# EAGLE library part IC_UC_PIC24FJ64GA002 (library dp_devices)
16-bit General Purpose Flash Microcontroller
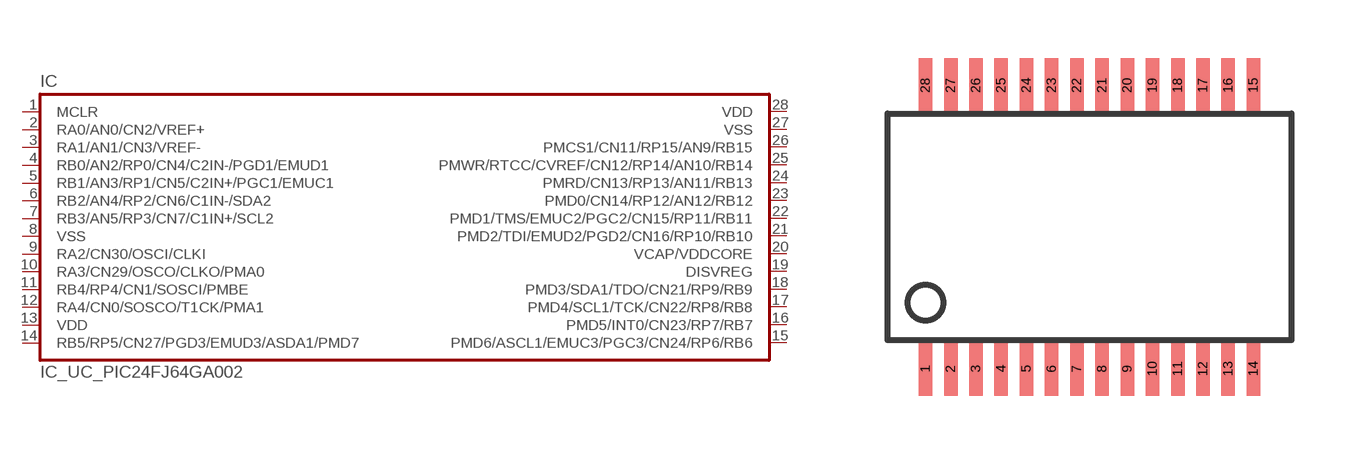
[diagram p76: symbol with the pads of SSOP-28; footprint SSOP-28]

Designator prefix IC

## IC_UC_PIC24FJ64GA002  [SSOP-28]
1  MCLR  in
2  RA0/AN0/CN2/VREF+
3  RA1/AN1/CN3/VREF-
4  RB0/AN2/RP0/CN4/C2IN-/PGD1/EMUD1
5  RB1/AN3/RP1/CN5/C2IN+/PGC1/EMUC1
6  RB2/AN4/RP2/CN6/C1IN-/SDA2
7  RB3/AN5/RP3/CN7/C1IN+/SCL2
8  VSS  sup
9  RA2/CN30/OSCI/CLKI
10  RA3/CN29/OSCO/CLKO/PMA0
11  RB4/RP4/CN1/SOSCI/PMBE
12  RA4/CN0/SOSCO/T1CK/PMA1
13  VDD  sup
14  RB5/RP5/CN27/PGD3/EMUD3/ASDA1/PMD7
15  PMD6/ASCL1/EMUC3/PGC3/CN24/RP6/RB6
16  PMD5/INT0/CN23/RP7/RB7
17  PMD4/SCL1/TCK/CN22/RP8/RB8
18  PMD3/SDA1/TDO/CN21/RP9/RB9
19  DISVREG  pwr
20  VCAP/VDDCORE  pwr
21  PMD2/TDI/EMUD2/PGD2/CN16/RP10/RB10
22  PMD1/TMS/EMUC2/PGC2/CN15/RP11/RB11
23  PMD0/CN14/RP12/AN12/RB12
24  PMRD/CN13/RP13/AN11/RB13
25  PMWR/RTCC/CVREF/CN12/RP14/AN10/RB14
26  PMCS1/CN11/RP15/AN9/RB15
27  VSS  sup
28  VDD  sup

## Footprint SSOP-28 (pad centres in mm)
SSOP28
smd 0.348 x 1.397: 1 -4.225,-3.656; 2 -3.575,-3.656; 3 -2.925,-3.656; 4 -2.275,-3.656; 5 -1.625,-3.656; 6 -0.975,-3.656; 7 -0.325,-3.656; 8 0.325,-3.656; 9 0.975,-3.656; 10 1.625,-3.656; 11 2.275,-3.656; 12 2.925,-3.656; 13 3.575,-3.656; 14 4.225,-3.656; 15 4.225,3.656; 16 3.575,3.656; 17 2.925,3.656; 18 2.275,3.656; 19 1.625,3.656; 20 0.975,3.656; 21 0.325,3.656; 22 -0.325,3.656; 23 -0.975,3.656; 24 -1.625,3.656; 25 -2.275,3.656; 26 -2.925,3.656; 27 -3.575,3.656; 28 -4.225,3.656